# Altium footprint library CAPC60X30X33L15N.PcbLib: 1 footprints
Each footprint in its own frame and in the unit in brackets; x right, y up, seen from the top. Pads: shape width x height; smd on the part's side, far side on the other; paste and mask are expansions set on the pad; w line width, h text height; cw(c..) or ccw(c..) is an arc to the next point about the centre after c.
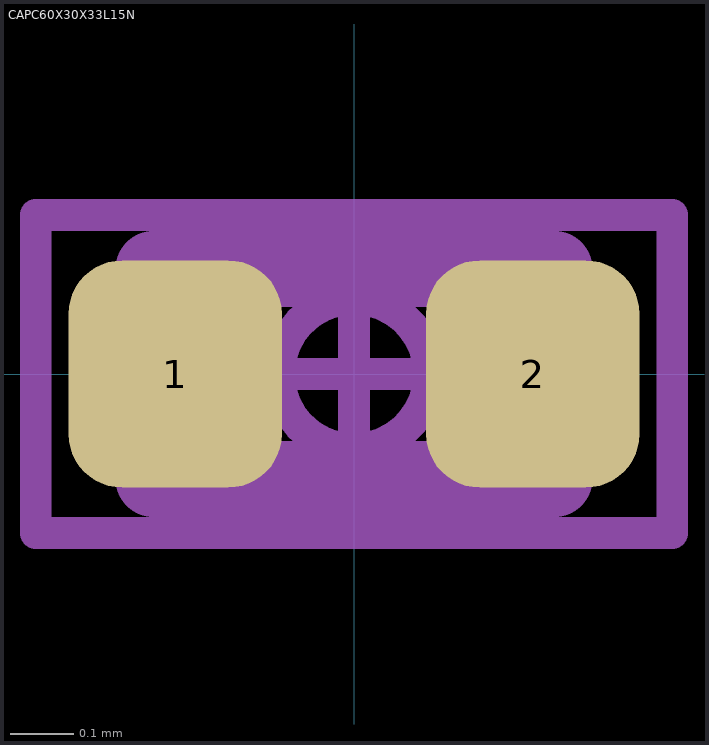
[diagram p0: the footprint, top view; thin cyan lines are the x and y axes]

## CAPC60X30X33L15N [mm] "Capacitor, Non-polarized, Chip; 0.60 mm L X 0.30 mm W X 0.33 mm H Body"
height 0.33
pads (2):
  rrect50% 0.335x0.357 smd mask+0.01: 1(-0.281,0) 2(0.281,0)
Mechanical 3:
  lines w0.12: -0.315,-0.165 -0.315,0.165 0.315,0.165 0.315,-0.165 -0.315,-0.165
Mechanical 5:
  lines w0.025: -0.3,-0.15 -0.15,-0.15 -0.15,0.15 -0.3,0.15 ; -0.3,-0.15 -0.3,0.15 ; -0.3,-0.15 -0.3,0.15 ; -0.3,-0.15 0.3,-0.15 ; -0.3,0.15 0.3,0.15 ; 0.3,-0.15 0.3,0.15 ; 0.3,-0.15 0.15,-0.15 0.15,0.15 0.3,0.15 ; 0.3,-0.15 0.3,0.15
Mechanical 7:
  circle w0.05: c0,0 r0.118
  lines w0.05: -0.158,0 0.158,0 ; 0,-0.158 0,0.158 ; -0.5,-0.25 -0.5,0.25 0.5,0.25 0.5,-0.25 -0.5,-0.25
Mechanical 9:
  text "'.Designator'" at -0.448,0.791 h1.02
3D body "CAPC60X30X33L15.STEP": height 0.33, standoff 0, extent -0.3,-0.15 0.3,0.15
3D body: height 0.33, standoff 0, extent -0.5,-0.25 0.5,0.25